# Altium schematic symbol library 691311400104.SchLib: 1 symbol
Pins are listed as number, name and electrical type; pins without a type are passive.

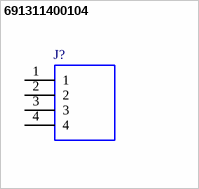
[diagram p0: symbol 691311400104]

## 691311400104
designator J?
WR-TBL Terminal block - serie 3114; Manufacturer_Name: Wurth Elektronik; Geometry.Height: 12.15mm; Manufacturer_Part_Number: 691311400104; Mouser Part Number: 710-691311400104; Mouser Price/Stock: https://www.mouser.co.uk/ProductDetail/Wurth-Elektronik/691311400104?qs=E2PpAYvlWVteo26mZsjDSg%3D%3D; Arrow Part Number: *; Arrow Price/Stock: *; Mouser Testing Part Number: *; Mouser Testing Price/Stock: *; Datasheet Link: https://www.mouser.com/datasheet/2/445/6913114001xx-461066.pdf
footprint 691311400104
pins: 1, 2, 3, 4